# Altium integrated library Integrated_Library_C1206.IntLib: 6 symbols
Pins are listed as number, name and electrical type; pins without a type are passive.

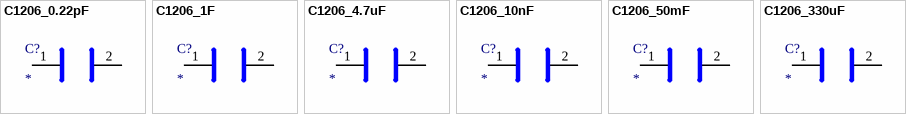
[diagram p0: symbols C1206_0.22pF to C1206_330uF]

## C1206_0.22pF
designator C?
C1206_0.22pF
footprint C1206
pins: 1, 2

## C1206_1F
designator C?
C1206_1F
footprint C1206
pins: 1, 2

## C1206_4.7uF
designator C?
C1206_4.7uF
footprint C1206
pins: 1, 2

## C1206_10nF
designator C?
C1206_10nF
footprint C1206
pins: 1, 2

## C1206_50mF
designator C?
C1206_50mF
footprint C1206
pins: 1, 2

## C1206_330uF
designator C?
C1206_330uF
footprint C1206
pins: 1, 2